# Altium footprint library ON Semiconductor.PcbLib: 4 footprints
Each footprint in its own frame and in the unit in brackets; x right, y up, seen from the top. Pads: shape width x height; smd on the part's side, far side on the other; paste and mask are expansions set on the pad; w line width, h text height; cw(c..) or ccw(c..) is an arc to the next point about the centre after c.
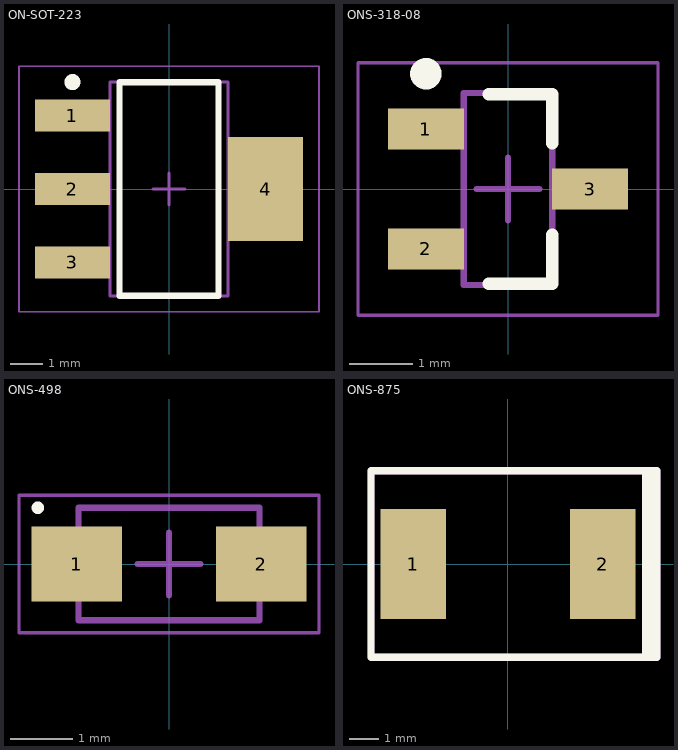
[diagram p0: the footprints below, top view; thin cyan lines are the x and y axes]

## ON-SOT-223 [mm] "SOT223, 4-Leads, Body 6.50x7.00mm (avg), Pitch 2.30mm, IPC Low Density"
height 1.8
pads (4):
  rect 2.35x1 smd: 1(-3.025,2.3) 2(-3.025,0) 3(-3.025,-2.3)
  rect 2.35x3.25 smd: 4(3.025,0)
Top Overlay:
  circle w0.25: c-3.025,3.35 r0.125
  lines w0.2: -1.55,-3.35 1.55,-3.35 1.55,3.35 -1.55,3.35 -1.55,-3.35
Mechanical 13:
  lines w0.1: -1.85,-3.35 1.85,-3.35 1.85,3.35 -1.85,3.35 -1.85,-3.35
Mechanical 15:
  lines w0.05: -4.7,-3.85 4.7,-3.85 4.7,3.85 -4.7,3.85 -4.7,-3.85
  lines w0.1: -0.5,0 0.5,0 ; 0,-0.5 0,0.5
3D body "ON-SOT-223.step": height 1.8, standoff 0, extent -3.5,-3.35 3.5,3.35

## ONS-318-08 [mm] "SOT23, 3-Leads, Body 2.92x2.37mm, Pitch 0.95mm, IPC Low Density"
height 1.11
pads (3):
  rect 1.2x0.65 smd: 1(-1.3,0.95) 2(-1.3,-0.95) 3(1.3,0)
Top Overlay:
  circle w0.25: c-1.3,1.825 r0.125
  lines w0.2: -0.3,-1.5 0.7,-1.5 0.7,-0.725 ; -0.3,1.5 0.7,1.5 0.7,0.725
Mechanical 13:
  lines w0.1: -0.7,-1.52 -0.7,1.52 0.7,1.52 0.7,-1.52 -0.7,-1.52
Mechanical 15:
  lines w0.05: -2.375,-2 -2.375,2 2.375,2 2.375,-2 -2.375,-2
  lines w0.1: -0.5,0 0.5,0 ; 0,-0.5 0,0.5
3D body "ONS-318-08.step": height 1.11, standoff 0, extent -1.32,-1.52 1.32,1.52

## ONS-498 [mm] "SODFL, 2-Leads, Body 1.65x3.60mm, IPC Low Density"
height 0.98
pads (2):
  rect 1.45x1.2 smd: 1(-1.475,0) 2(1.475,0)
Top Overlay:
  circle w0.1: c-2.1,0.9 r0.05
Mechanical 13:
  lines w0.1: -1.45,-0.9 -1.45,0.9 1.45,0.9 1.45,-0.9 -1.45,-0.9
Mechanical 15:
  lines w0.05: -2.4,-1.1 -2.4,1.1 2.4,1.1 2.4,-1.1 -2.4,-1.1
  lines w0.1: -0.5,0 0.5,0 ; 0,-0.5 0,0.5
3D body "ONS-498.step": height 0.98, standoff 0, extent -1.8,-0.9 1.8,0.9

## ONS-875 [mm]
pads (2):
  rect 2.25x3.79 smd: 1(-3.25,0) 2(3.25,0)
Top Overlay:
  rectangle: 4.6,-3.2 5.1,3.2
  lines w0.254: 4.7,-3.2 -4.7,-3.2 ; 4.7,3.2 -4.7,3.2 ; -4.7,-3.2 5.1,-3.2 5.1,3.2 -4.7,3.2 ; -4.7,-3.2 -4.7,3.2 ; -4.7,-3.2 -4.7,3.2
Mechanical 15:
  rectangle: 4.6,-3.2 5.1,3.2
  lines w0.254: -4.7,-3.2 -4.7,3.2 5.1,3.2 5.1,-3.2 -4.7,-3.2
  text "'.Designator'" at -4.7,3.8 h0.7
3D body "User Library-DO-214AB SMC.Step": height 2.32, standoff 0.01, extent -3.975,-2.95 3.975,2.95
3D body: height 0.25, standoff 0, extent -1.2,2.9 -1.2,2.9